# Altium schematic symbol library 晶振.SchLib: 1 symbol
Pins are listed as number, name and electrical type; pins without a type are passive.

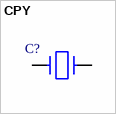
[diagram p0: symbol CPY]

## CPY
designator C?
footprint XTAL1
footprint XTAL3
pins: 1, 2